# EAGLE library part DAC,AD5547(16-BIT,DUAL,PAR) (library QuantumOptics)
AD5557/47, 16-bit DAC, parallel, Analog Devices, 500nS settling, low glitch, 57 is 16-bit, 47 is 14-bit.
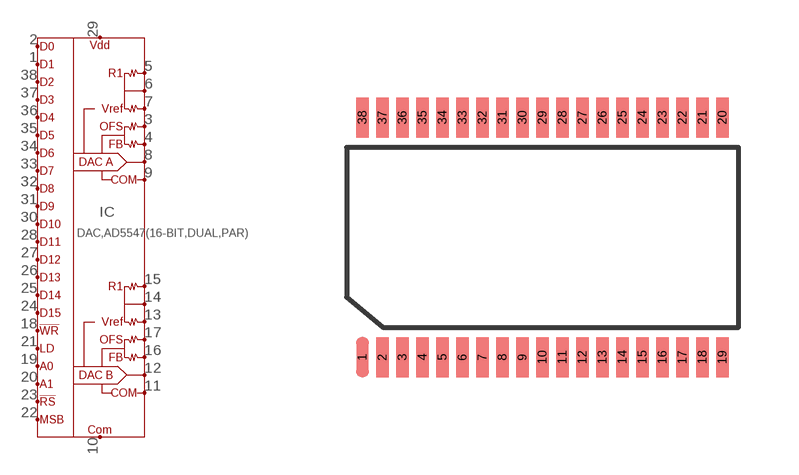
[diagram p201: symbol with the pads of TSSOP-38; footprint TSSOP-38]

Designator prefix IC

## DAC,AD5547(16-BIT,DUAL,PAR)-TSSOP38  [TSSOP-38]
1  D1  in
2  D0  in
3  ROFSA  in
4  RFBA  in
5  R1A
6  RCOMA
7  VREFA
8  IOUTA  out
9  COMA
10  COM
11  COMB
12  IOUTB  out
13  VREFB
14  RCOMB
15  R1B
16  RFBB  in
17  ROFSB  in
18  !WR  in
19  A0  in
20  A1  in
21  LDAC  in
22  MSB  in
23  !RS  in
24  D15  in
25  D14  in
26  D13  in
27  D12  in
28  D11  in
29  VDD
30  D10  in
31  D9  in
32  D8  in
33  D7  in
34  D6  in
35  D5  in
36  D4  in
37  D3  in
38  D2  in

## Footprint TSSOP-38 (pad centres in mm)
TSSOP-38, pins 0.5mm c-c, pins 6.4mm max width
smd 0.32 x 1: 1 -4.5,-3; 2 -4,-3; 3 -3.5,-3; 4 -3,-3; 5 -2.5,-3; 6 -2,-3; 7 -1.5,-3; 8 -1,-3; 9 -0.5,-3; 10 0,-3; 11 0.5,-3; 12 1,-3; 13 1.5,-3; 14 2,-3; 15 2.5,-3; 16 3,-3; 17 3.5,-3; 18 4,-3; 19 4.5,-3; 20 4.5,3; 21 4,3; 22 3.5,3; 23 3,3; 24 2.5,3; 25 2,3; 26 1.5,3; 27 1,3; 28 0.5,3; 29 0,3; 30 -0.5,3; 31 -1,3; 32 -1.5,3; 33 -2,3; 34 -2.5,3; 35 -3,3; 36 -3.5,3; 37 -4,3; 38 -4.5,3